# Altium integrated library Stm32_Minimum_Board.IntLib: 17 symbols
Pins are listed as number, name and electrical type; pins without a type are passive.

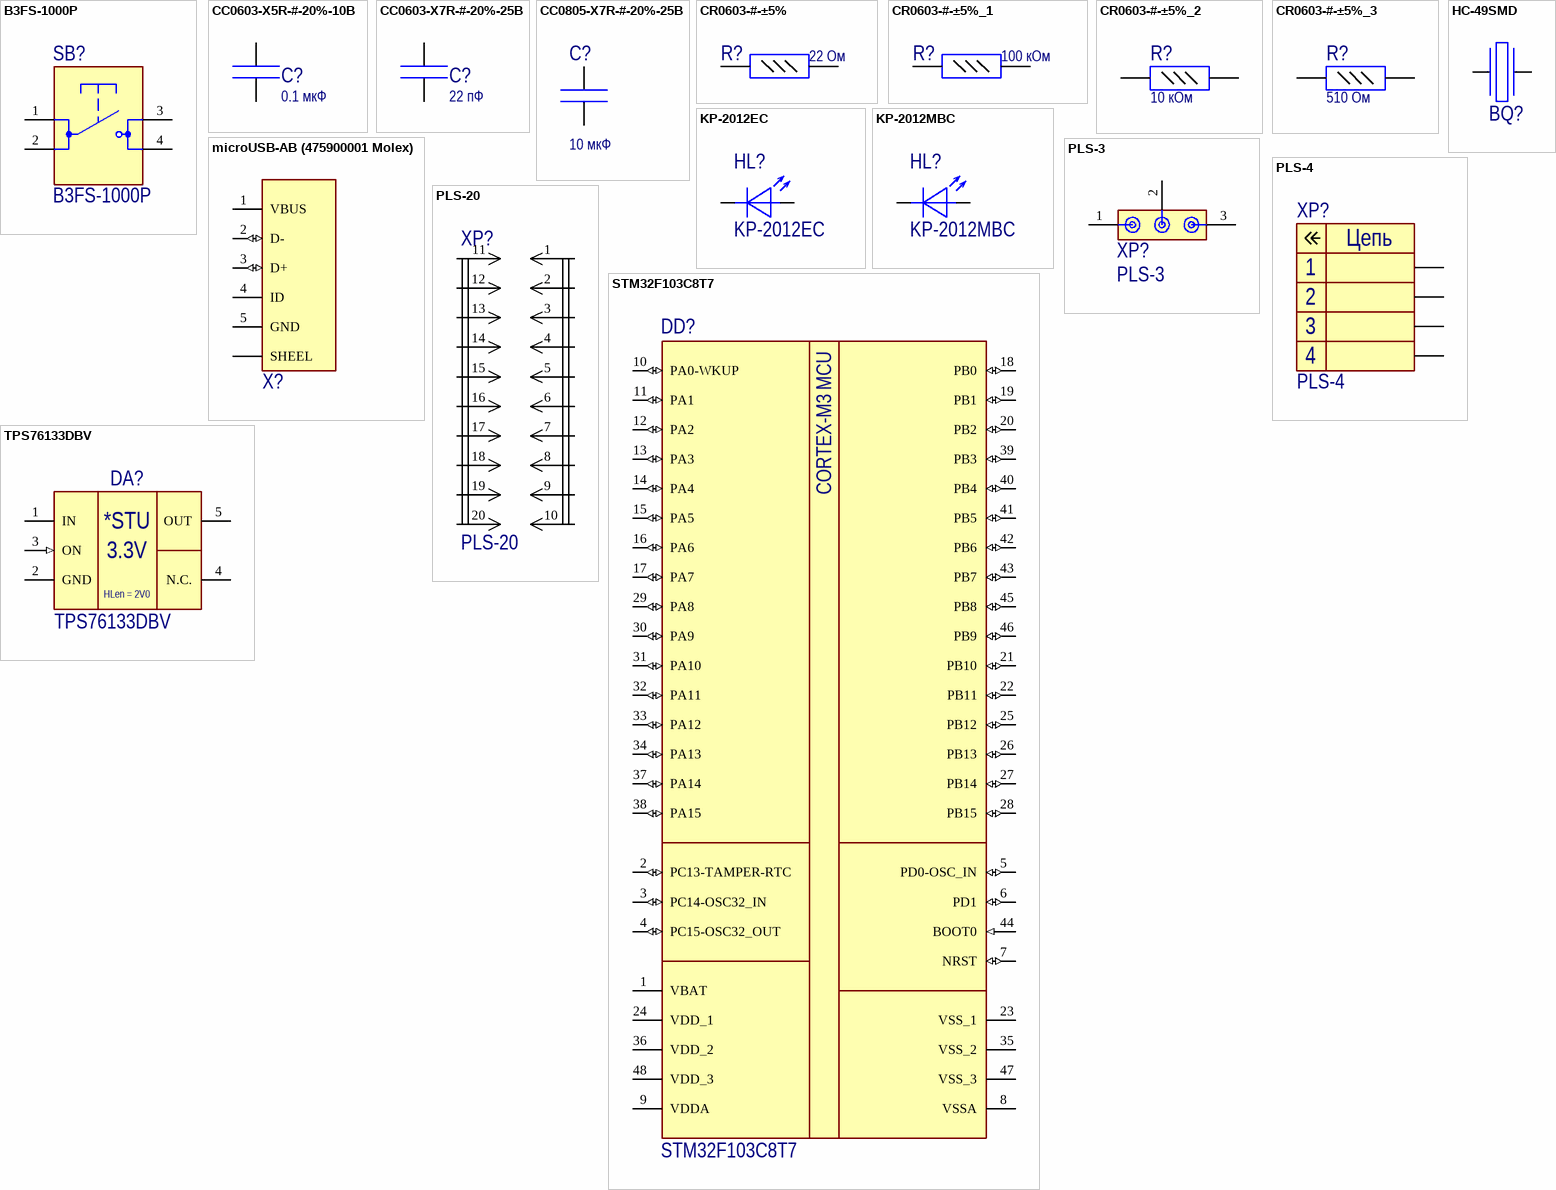
[diagram p0: symbols B3FS-1000P to TPS76133DBV]

## B3FS-1000P
designator SB?
Кнопка тактовая 3.1мм; Supplier 1: Mouser; Supplier 2: Farnell
footprint B3FS-10xx
pins: 1, 2, 3, 4
1 alternate drawing of the same symbol

## CC0603-X5R-#-20%-10В
designator C?, comment value 0.1 мкФ  (hidden comment: CC0603-X5R-0.1 мкФ-20%-10В)
Чип конденсатор керамический; Компэл: CC0603KRX5R6BB475; Supplier 1: Digi-Key; Supplier Part Number 1: 311-1455-2-ND
footprint CC0603
pins: 1 +, 2 -

## CC0603-X7R-#-20%-25В
designator C?, comment value 22 пФ  (hidden comment: CC0603-X7R-22 пФ-20%-25В)
Чип конденсатор керамический; Компэл: GRM188R71E105KA12D MUR; Supplier 1: Digi-Key; Supplier Part Number 1: 490-5307-6-ND
footprint CC0603
pins: 1 +, 2 -

## CC0805-X7R-#-20%-25В
designator C?, comment value 10 мкФ  (hidden comment: CC0805-X7R-10 мкФ-20%-25В)
Чип конденсатор керамический; Компэл: CC0805KKX7R8BB225; Supplier 1: Farnell; Supplier Part Number 1: 1458904
footprint CC0805 (Footprint not found)
pins: 1 +, 2 -

## CR0603-#-±5%
designator R?, comment value 22 Ом  (hidden comment: CR0603-22 Ом-±5%)
Чип резистор
footprint CR0603
pins: 1 +, 2 -

## CR0603-#-±5%_1
designator R?, comment value 100 кОм  (hidden comment: CR0603-100 кОм-±5%)
Чип резистор
footprint CR0603
pins: 1 +, 2 -

## CR0603-#-±5%_2
designator R?, comment value 10 кОм  (hidden comment: CR0603-10 кОм-±5%)
Чип резистор
footprint CR0603
pins: 1 +, 2 -

## CR0603-#-±5%_3
designator R?, comment value 510 Ом  (hidden comment: CR0603-510 Ом-±5%)
Чип резистор
footprint CR0603
pins: 1 +, 2 -

## HC-49SMD
designator BQ?  (value not drawn)
Кварцевый резонатор
footprint HC49-SMD (Quartz Crystal, SM; Body 13.4 (inc. leads) x 4.9 mm (LxW max))
pins: 1, 2

## KP-2012EC
designator HL?
Светодиод красный SMD0805; Supplier 1: Farnell; Supplier Part Number 1: 8529949
footprint KP-2012-RED (Светодиод красный 0805)
pins: 1 A, 2 K

## KP-2012MBC
designator HL?
Светодиод голубой SMD0805; Supplier 1: Farnell; Supplier Part Number 1: 8529876
footprint KP-2012-BL (Голубой светодиод 0805)
pins: 1 A, 2 K

## microUSB-AB (475900001 Molex)
designator X?  (value not drawn)
microUSB SMD
footprint microUSB-AB PCB (475900001 Molex)
pins: 1 VBUS (power) "Power", 2 D- (io) "-DATA", 3 D+ (io) "+DATA", 4 ID "Ground", 5 GND (power) "Ground", MH SHEEL "Shield"

## PLS-3
designator XP?
Штыри на плату однорядные
footprint PLS-3 (Footprint not found)
pins: 1, 2, 3
1 alternate drawing of the same symbol

## PLS-4
designator XP?
Штыри на плату однорядные
footprint PLS-4 (Footprint not found)
pins: 1, 2, 3, 4
1 alternate drawing of the same symbol
text: Цепь

## PLS-20
designator XP?
Штыри на плату
footprint PLS-20 (Штыри однорядные)
pins: 1, 2, 3, 4, 5, 6, 7, 8, 9, 10, 11, 12, 13, 14, 15, 16, 17, 18, 19, 20

## STM32F103C8T7
designator DD?
Микроконтроллер 32bit; Supplier 1: Digi-Key; Supplier Part Number 1: 497-11517-ND
footprint LQFP50P700x700-48 (Thin QFP, 48-Leads, Body 7x7mm, Pitch 0.5mm, IPC Medium Density)
pins: 1 VBAT (power), 2 PC13-TAMPER-RTC (io), 3 PC14-OSC32_IN (io), 4 PC15-OSC32_OUT (io), 5 PD0-OSC_IN (io), 6 PD1 (io), 7 NRST (io), 8 VSSA (power), 9 VDDA (power), 10 PA0-WKUP (io), 11 PA1 (io), 12 PA2 (io), 13 PA3 (io), 14 PA4 (io), 15 PA5 (io), 16 PA6 (io), 17 PA7 (io), 18 PB0 (io), 19 PB1 (io), 20 PB2 (io), 21 PB10 (io), 22 PB11 (io), 23 VSS_1 (power), 24 VDD_1 (power), 25 PB12 (io), 26 PB13 (io), 27 PB14 (io), 28 PB15 (io), 29 PA8 (io), 30 PA9 (io), 31 PA10 (io), 32 PA11 (io), 33 PA12 (io), 34 PA13 (io), 35 VSS_2 (power), 36 VDD_2 (power), 37 PA14 (io), 38 PA15 (io), 39 PB3 (io), 40 PB4 (io), 41 PB5 (io), 42 PB6 (io), 43 PB7 (io), 44 BOOT0 (in), 45 PB8 (io), 46 PB9 (io), 47 VSS_3 (power), 48 VDD_3 (power)
text: MCU; CORTEX-M3

## TPS76133DBV
designator DA?
Стабилизатор 3,3В Vin = 16В, Io =  100 мА, Vdo = 170 мВ; Supplier 1: Digi-Key; Supplier Part Number 1: 296-2695-2-ND
footprint TSOP-5 ((SOT23-5))
pins: 1 IN, 2 GND (power), 3 ON (in), 4 N.C., 5 OUT (power)
text: *STU; 3.3V; HLen = 2V0